# Altium schematic symbol library mw.SchLib: 78 symbols
Pins are listed as number, name and electrical type; pins without a type are passive.

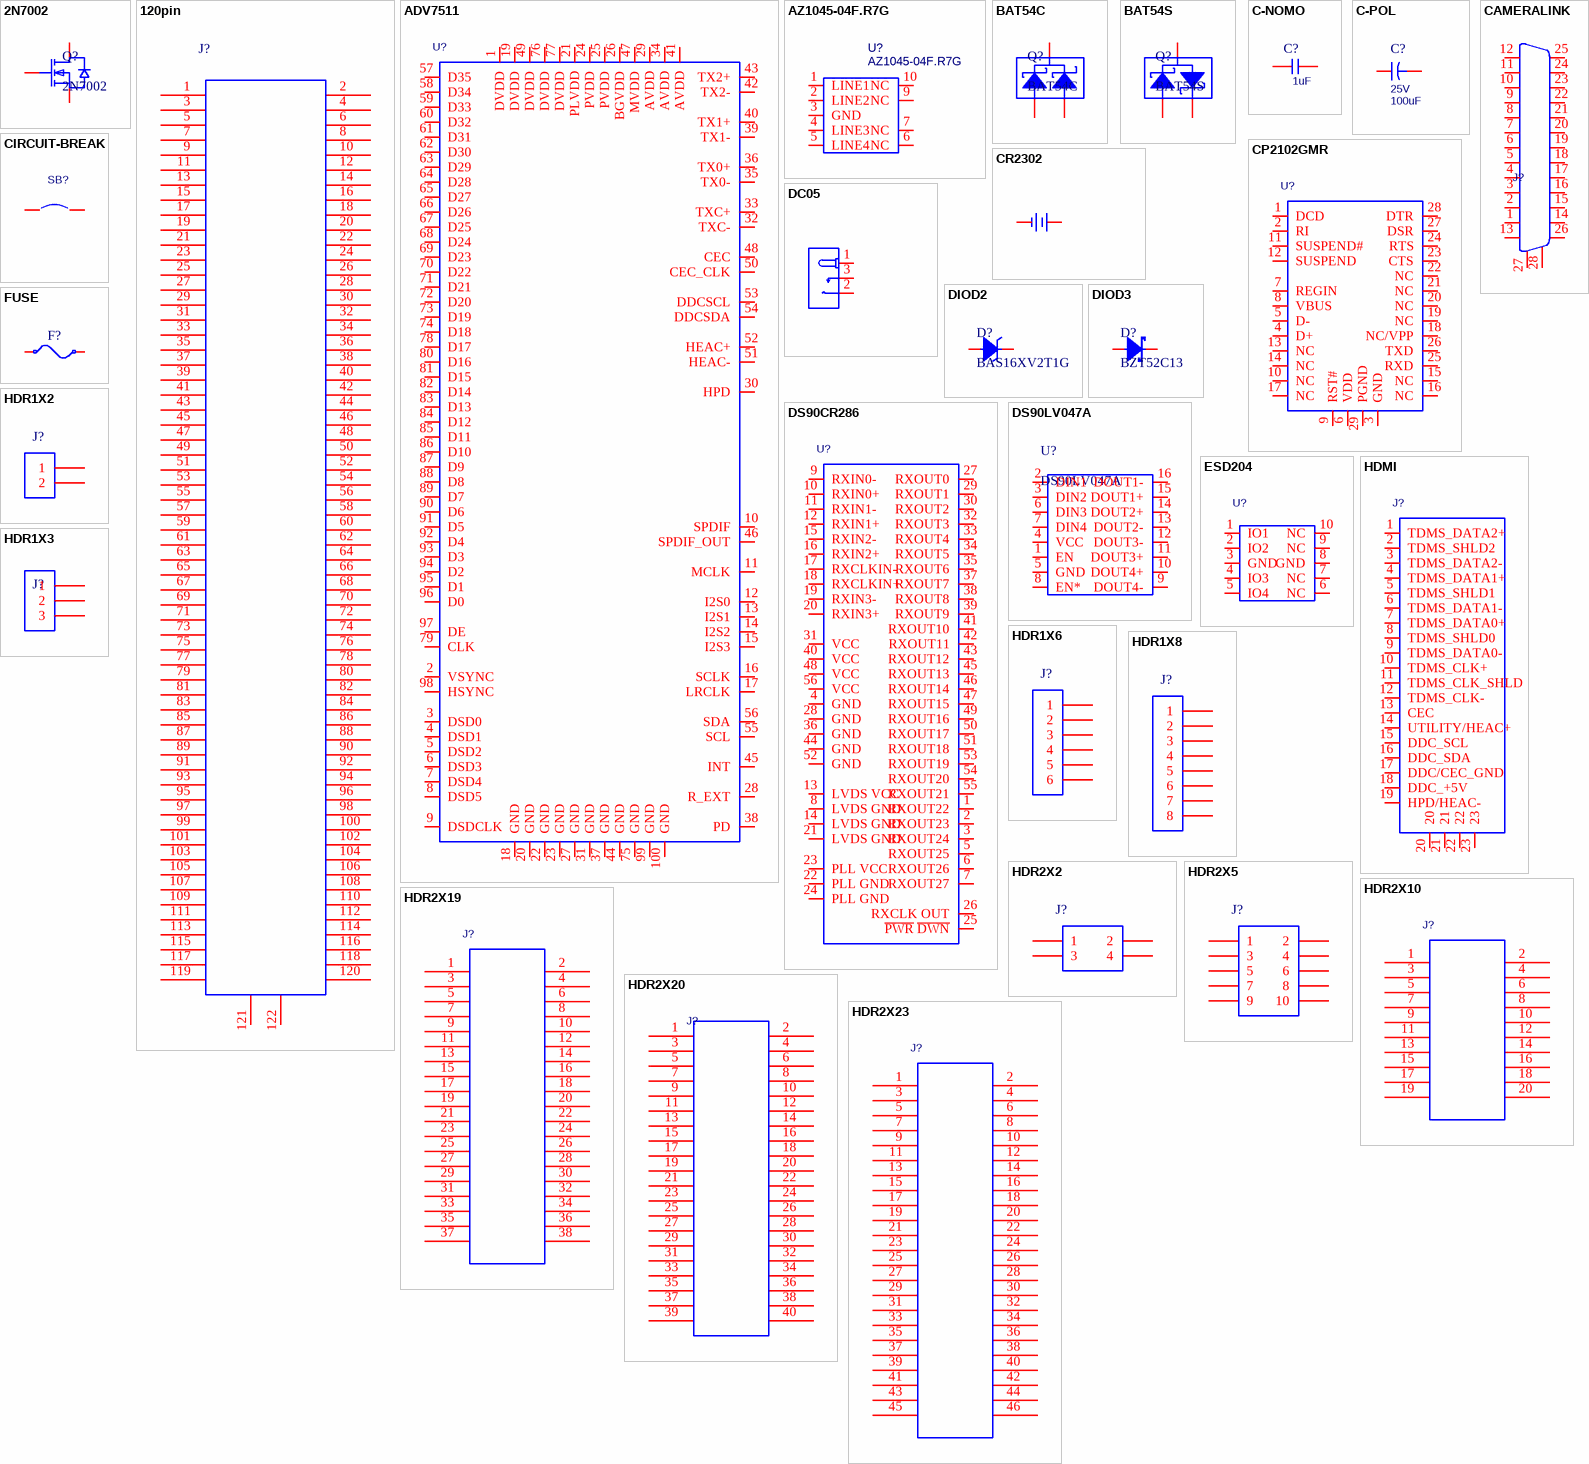
[diagram p0: symbols 2N7002 to HDR2X23]

## 2N7002
designator Q?
Supplier Part Number 1: C725128; Supplier 1: LCSC
footprint 2N7002 (SOT23, 3-Leads, Body 2.90x2.40mm, Pitch 0.95mm, IPC High Density)
pins: D, G, S

## 120pin
designator J?
footprint AXK620337YG (Footprint not found)
pins: 1, 2, 3, 4, 5, 6, 7, 8, 9, 10, 11, 12, 13, 14, 15, 16, 17, 18, 19, 20, 21, 22, 23, 24, 25, 26, 27, 28, 29, 30, 31, 32, 33, 34, 35, 36, 37, 38, 39, 40, 41, 42, 43, 44, 45, 46, 47, 48, 49, 50, 51, 52, 53, 54, 55, 56, 57, 58, 59, 60, 61, 62, 63, 64, 65, 66, 67, 68, 69, 70, 71, 72, 73, 74, 75, 76, 77, 78, 79, 80, 81, 82, 83, 84, 85, 86, 87, 88, 89, 90, 91, 92, 93, 94, 95, 96, 97, 98, 99, 100, 101, 102, 103, 104, 105, 106, 107, 108, 109, 110, 111, 112, 113, 114, 115, 116, 117, 118, 119, 120, 121, 122

## ADV7511
designator U?  (value not drawn)
Supplier 1: LCSC; Supplier Part Number 1: C179459
footprint ADV7511 (Footprint not found)
pins: 1 DVDD, 2 VSYNC, 3 DSD0, 4 DSD1, 5 DSD2, 6 DSD3, 7 DSD4, 8 DSD5, 9 DSDCLK, 10 SPDIF, 11 MCLK, 12 I2S0, 13 I2S1, 14 I2S2, 15 I2S3, 16 SCLK, 17 LRCLK, 18 GND, 19 DVDD, 20 GND, 21 PLVDD, 22 GND, 23 GND, 24 PVDD, 25 PVDD, 26 BGVDD, 27 GND, 28 R_EXT, 29 AVDD, 30 HPD, 31 GND, 32 TXC-, 33 TXC+, 34 AVDD, 35 TX0-, 36 TX0+, 37 GND, 38 PD, 39 TX1-, 40 TX1+, 41 AVDD, 42 TX2-, 43 TX2+, 44 GND, 45 INT, 46 SPDIF_OUT, 47 MVDD, 48 CEC, 49 DVDD, 50 CEC_CLK, 51 HEAC-, 52 HEAC+, 53 DDCSCL, 54 DDCSDA, 55 SCL, 56 SDA, 57 D35, 58 D34, 59 D33, 60 D32, 61 D31, 62 D30, 63 D29, 64 D28, 65 D27, 66 D26, 67 D25, 68 D24, 69 D23, 70 D22, 71 D21, 72 D20, 73 D19, 74 D18, 75 GND, 76 DVDD, 77 DVDD, 78 D17, 79 CLK, 80 D16, 81 D15, 82 D14, 83 D13, 84 D12, 85 D11, 86 D10, 87 D9, 88 D8, 89 D7, 90 D6, 91 D5, 92 D4, 93 D3, 94 D2, 95 D1, 96 D0, 97 DE, 98 HSYNC, 99 GND, 100 GND

## AZ1045-04F.R7G
designator U?
Supplier 1: LCSC; Supplier Part Number 1: C356811
footprint AZ1045 (Footprint not found)
pins: 1 LINE1, 2 LINE2, 3 GND, 4 LINE3, 5 LINE4, 6 NC, 7 NC, 9 NC, 10 NC

## BAT54C
designator Q?
Supplier Part Number 1: C82467; Supplier 1: LCSC
footprint SOT-23 (Footprint not found)
pins: 1, 2, 3

## BAT54S
designator Q?
Supplier 1: LCSC; Supplier Part Number 1: C19726
footprint SOT-23 (Footprint not found)
pins: 1, 2, 3

## C-NOMO
designator C?  value 1uF
voltage: 25V; precision: 5%
footprint C0603 (Footprint not found)
footprint C0402 (Footprint not found)
footprint C0805 (Footprint not found)
pins: 1, 2

## C-POL
designator C?  value 100uF  voltage: 25V
footprint C7343 (Footprint not found)
pins: 1, 2

## CAMERALINK
designator J?  (value not drawn)
footprint CAMERALINK (Footprint not found)
pins: 1, 2, 3, 4, 5, 6, 7, 8, 9, 10, 11, 12, 13, 14, 15, 16, 17, 18, 19, 20, 21, 22, 23, 24, 25, 26, 27, 28

## CIRCUIT-BREAK
designator SB?, comment Circuit Breaker  (value not drawn)
footprint CIRCUIT_BREAKER (Footprint not found)
pins: 1, 2

## CP2102GMR
designator U?  (value not drawn)
Supplier 1: LCSC; Supplier Part Number 1: C6568
footprint CP2102GMR (Footprint not found)
pins: 1 DCD, 2 RI, 3 GND, 4 D+, 5 D-, 6 VDD, 7 REGIN, 8 VBUS, 9 RST#, 10 NC, 11 SUSPEND#, 12 SUSPEND, 13 NC, 14 NC, 15 NC, 16 NC, 17 NC, 18 NC/VPP, 19 NC, 20 NC, 21 NC, 22 NC, 23 CTS, 24 RTS, 25 RXD, 26 TXD, 27 DSR, 28 DTR, 29 PGND

## CR2302
designator J?  (value not drawn)
frequency: 25MHZ
footprint CR2302 (Footprint not found)
pins: 1, 2

## DC05
designator J?
Supplier 1: LCSC; Supplier Part Number 1: C136744
footprint DC05 (Footprint not found)
pins: 1, 2, 3

## DIOD2
designator D?, comment BAS16XV2T1G
footprint SOD-523 (Footprint not found)
footprint DO-214AC (Footprint not found)
footprint SOD-123 (Footprint not found)
pins: 1, 2

## DIOD3
designator D?, comment BZT52C13
HelpURL: ./referencce/bzt52c13.pdf#page=(1)
footprint DO-214AC (Footprint not found)
footprint SOD-123 (Footprint not found)
pins: 1, 2

## DS90CR286
designator U?  (value not drawn)
Supplier 1: LCSC; Supplier Part Number 1: C311790
footprint DS90CR286 (Footprint not found)
pins: 1 RXOUT22, 2 RXOUT23, 3 RXOUT24, 4 GND, 5 RXOUT25, 6 RXOUT26, 7 RXOUT27, 8 LVDS GND, 9 RXIN0-, 10 RXIN0+, 11 RXIN1-, 12 RXIN1+, 13 LVDS VCC, 14 LVDS GND, 15 RXIN2-, 16 RXIN2+, 17 RXCLKIN-, 18 RXCLKIN+, 19 RXIN3-, 20 RXIN3+, 21 LVDS GND, 22 PLL GND, 23 PLL VCC, 24 PLL GND, 25 ~{PWR} ~{DWN}, 26 RXCLK OUT, 27 RXOUT0, 28 GND, 29 RXOUT1, 30 RXOUT2, 31 VCC, 32 RXOUT3, 33 RXOUT4, 34 RXOUT5, 35 RXOUT6, 36 GND, 37 RXOUT7, 38 RXOUT8, 39 RXOUT9, 40 VCC, 41 RXOUT10, 42 RXOUT11, 43 RXOUT12, 44 GND, 45 RXOUT13, 46 RXOUT14, 47 RXOUT15, 48 VCC, 49 RXOUT16, 50 RXOUT17, 51 RXOUT18, 52 GND, 53 RXOUT19, 54 RXOUT20, 55 RXOUT21, 56 VCC

## DS90LV047A
designator U?
Supplier Part Number 1: C87097; Supplier 1: LCSC
footprint DS90LV047 (Footprint not found)
pins: 1 EN, 2 DIN1, 3 DIN2, 4 VCC, 5 GND, 6 DIN3, 7 DIN4, 8 EN*, 9 DOUT4-, 10 DOUT4+, 11 DOUT3+, 12 DOUT3-, 13 DOUT2-, 14 DOUT2+, 15 DOUT1+, 16 DOUT1-

## ESD204
designator U?  (value not drawn)
Supplier 1: LCSC; Supplier Part Number 1: C553132
footprint ESD204
pins: 1 IO1, 2 IO2, 3 GND, 4 IO3, 5 IO4, 6 NC, 7 NC, 8 GND, 9 NC, 10 NC

## FUSE
designator F?
Supplier 1: LCSC; Supplier Part Number 1: C883162
footprint F1812 (Footprint not found)
pins: 1, 2

## HDMI
designator J?  (value not drawn)
Supplier 1: LCSC; Supplier Part Number 1: C138388
footprint HDMI_A_TYPE (Footprint not found)
pins: 1 TDMS_DATA2+, 2 TDMS_SHLD2, 3 TDMS_DATA2-, 4 TDMS_DATA1+, 5 TDMS_SHLD1, 6 TDMS_DATA1-, 7 TDMS_DATA0+, 8 TDMS_SHLD0, 9 TDMS_DATA0-, 10 TDMS_CLK+, 11 TDMS_CLK_SHLD, 12 TDMS_CLK-, 13 CEC, 14 UTILITY/HEAC+, 15 DDC_SCL, 16 DDC_SDA, 17 DDC/CEC_GND, 18 DDC_+5V, 19 HPD/HEAC-, 20, 21, 22, 23

## HDR1X2
designator J?
Supplier 1: LCSC; Supplier Part Number 1: C474881; Supplier 2: LCSC; Supplier Part Number 2: C225477; Supplier 3: LCSC; Supplier Part Number 3: C20079
footprint HDR1X2 (Footprint not found)
footprint KF301-5.0-2P (Footprint not found)
footprint XH-2A (Footprint not found)
pins: 1, 2

## HDR1X3
designator J?
Supplier 1: LCSC; Supplier Part Number 1: C474884; Supplier 2: LCSC; Supplier Part Number 2: C609572
footprint HDR1X3 (Footprint not found)
footprint KF301-5.0-3P (Footprint not found)
pins: 1, 2, 3

## HDR1X6
designator J?
Supplier 1: LCSC; Supplier Part Number 1: C474881; Supplier 2: LCSC; Supplier Part Number 2: C225477; Supplier 3: LCSC; Supplier Part Number 3: C20079
footprint KF301-5.0-6P
pins: 1, 2, 3, 4, 5, 6

## HDR1X8
designator J?
Supplier 1: LCSC; Supplier Part Number 1: C474881; Supplier 2: LCSC; Supplier Part Number 2: C225477; Supplier 3: LCSC; Supplier Part Number 3: C20079
footprint KF301-5.0-8P
pins: 1, 2, 3, 4, 5, 6, 7, 8

## HDR2X2
designator J?
Supplier 1: LCSC; Supplier Part Number 1: C225517
footprint HDR2X2 (Footprint not found)
pins: 1, 2, 3, 4

## HDR2X5
designator J?
Supplier 1: LCSC; Supplier Part Number 1: C225520; Supplier 2: LCSC; Supplier Part Number 2: C5665
footprint HDR2X5 (Footprint not found)
footprint HDR2X5-NJ (Footprint not found)
pins: 1, 2, 3, 4, 5, 6, 7, 8, 9, 10

## HDR2X10
designator J?
Supplier 1: LCSC; Supplier Part Number 1: C124359; Supplier 2: LCSC; Supplier Part Number 2: C3405
footprint HDR2X10-NJ (Footprint not found)
footprint HDR2X10 (Connector; Header;)
pins: 1, 2, 3, 4, 5, 6, 7, 8, 9, 10, 11, 12, 13, 14, 15, 16, 17, 18, 19, 20

## HDR2X19
designator J?
Supplier 1: LCSC; Supplier Part Number 1: C124383
footprint HDR2X19-1.27-SMD (Footprint not found)
pins: 1, 2, 3, 4, 5, 6, 7, 8, 9, 10, 11, 12, 13, 14, 15, 16, 17, 18, 19, 20, 21, 22, 23, 24, 25, 26, 27, 28, 29, 30, 31, 32, 33, 34, 35, 36, 37, 38

## HDR2X20
designator J?
Supplier 1: LCSC; Supplier Part Number 1: C124383
footprint HDR2X20 (Footprint not found)
pins: 1, 2, 3, 4, 5, 6, 7, 8, 9, 10, 11, 12, 13, 14, 15, 16, 17, 18, 19, 20, 21, 22, 23, 24, 25, 26, 27, 28, 29, 30, 31, 32, 33, 34, 35, 36, 37, 38, 39, 40

## HDR2X23
designator J?
footprint HDR2X23-1.27-SMD (Footprint not found)
pins: 1, 2, 3, 4, 5, 6, 7, 8, 9, 10, 11, 12, 13, 14, 15, 16, 17, 18, 19, 20, 21, 22, 23, 24, 25, 26, 27, 28, 29, 30, 31, 32, 33, 34, 35, 36, 37, 38, 39, 40, 41, 42, 43, 44, 45, 46

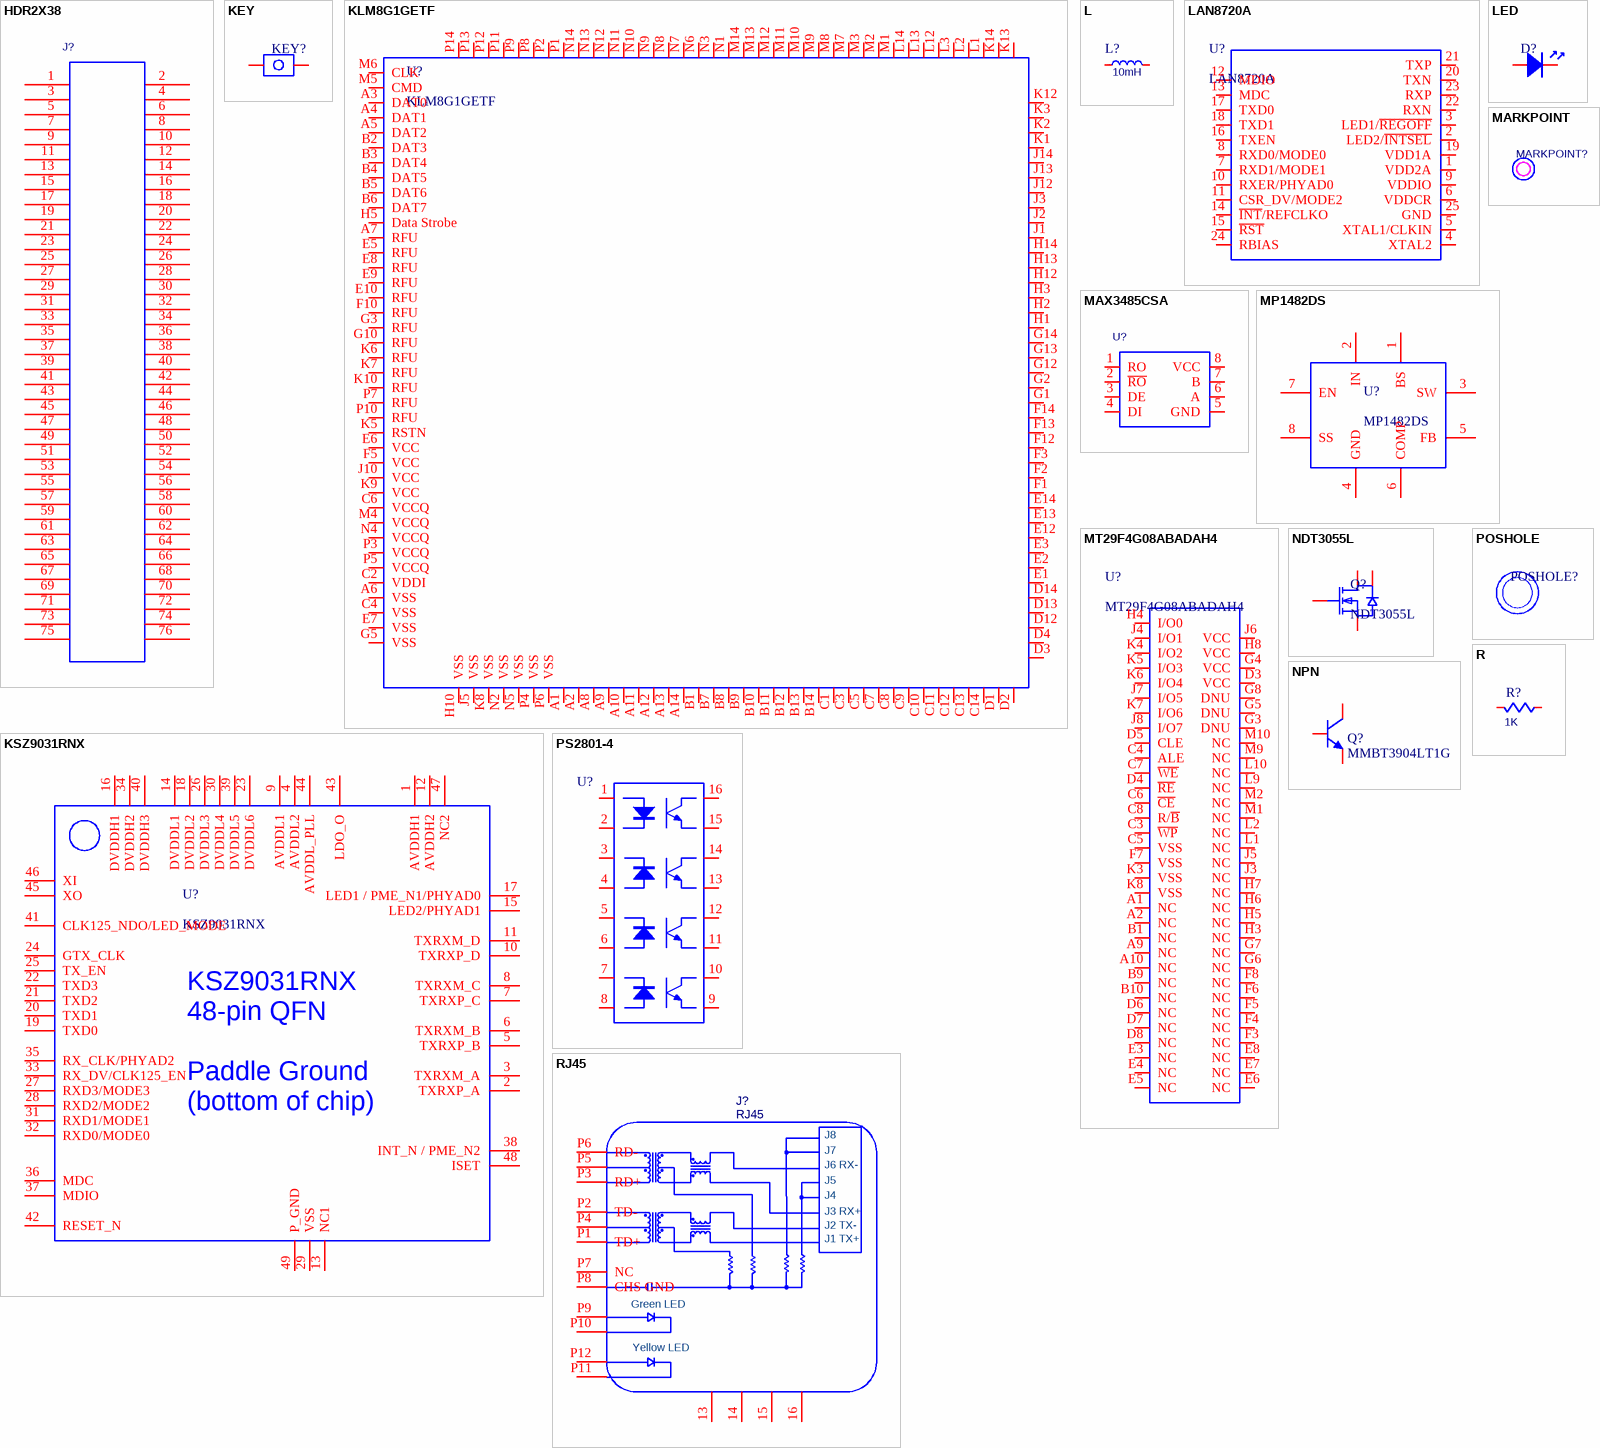
[diagram p1: symbols HDR2X38 to RJ45]

## HDR2X38
designator J?
footprint HDR2X38-1.27-SMD (Footprint not found)
pins: 1, 2, 3, 4, 5, 6, 7, 8, 9, 10, 11, 12, 13, 14, 15, 16, 17, 18, 19, 20, 21, 22, 23, 24, 25, 26, 27, 28, 29, 30, 31, 32, 33, 34, 35, 36, 37, 38, 39, 40, 41, 42, 43, 44, 45, 46, 47, 48, 49, 50, 51, 52, 53, 54, 55, 56, 57, 58, 59, 60, 61, 62, 63, 64, 65, 66, 67, 68, 69, 70, 71, 72, 73, 74, 75, 76

## KEY
designator KEY?
Supplier 1: LCSC; Supplier Part Number 1: C136741
footprint KEY735SO (Footprint not found)
pins: 1, 2

## KLM8G1GETF
designator U?
Supplier 1: LCSC; Supplier Part Number 1: C499918
footprint KLM8G1GETF (Footprint not found)
pins: A1, A2, A3 DAT0, A4 DAT1, A5 DAT2, A6 VSS, A7 RFU, A8, A9, A10, A11, A12, A13, A14, B1, B2 DAT3, B3 DAT4, B4 DAT5, B5 DAT6, B6 DAT7, B7, B8, B9, B10, B11, B12, B13, B14, C1, C2 VDDI, C3, C4 VSS, C5, C6 VCCQ, C7, C8, C9, C10, C11, C12, C13, C14, D1, D2, D3, D4, D12, D13, D14, E1, E2, E3, E5 RFU, E6 VCC, E7 VSS, E8 RFU, E9 RFU, E10 RFU, E12, E13, E14, F1, F2, F3, F5 VCC, F10 RFU, F12, F13, F14, G1, G2, G3 RFU, G5 VSS, G10 RFU, G12, G13, G14, H1, H2, H3, H5 Data Strobe, H10 VSS, H12, H13, H14, J1, J2, J3, J5 VSS, J10 VCC, J12, J13, J14, K1, K2, K3, K5 RSTN, K6 RFU, K7 RFU, K8 VSS, K9 VCC, K10 RFU, K12, K13, K14, L1, L2, L3, L12, L13, L14, M1, M2, M3, M4 VCCQ, M5 CMD, M6 CLK, M7, M8, M9, M10, M11, M12, M13, M14, N1, N2 VSS, N3, N4 VCCQ, N5 VSS, N6, N7, N8, N9, N10, N11, N12, N13, N14, P1, P2, P3 VCCQ, P4 VSS, P5 VCCQ, P6 VSS, P7 RFU, P8, P9, P10 RFU, P11, P12, P13, P14

## KSZ9031RNX
designator U?
Supplier 1: LCSC; Supplier Part Number 1: C58758
footprint KSZ9031 (Footprint not found)
pins: 1 AVDDH1, 2 TXRXP_A, 3 TXRXM_A, 4 AVDDL2, 5 TXRXP_B, 6 TXRXM_B, 7 TXRXP_C, 8 TXRXM_C, 9 AVDDL1, 10 TXRXP_D, 11 TXRXM_D, 12 AVDDH2, 13 NC1, 14 DVDDL1, 15 LED2/PHYAD1, 16 DVDDH1, 17 LED1 / PME_N1/PHYAD0, 18 DVDDL2, 19 TXD0, 20 TXD1, 21 TXD2, 22 TXD3, 23 DVDDL6, 24 GTX_CLK, 25 TX_EN, 26 DVDDL3, 27 RXD3/MODE3, 28 RXD2/MODE2, 29 VSS, 30 DVDDL4, 31 RXD1/MODE1, 32 RXD0/MODE0, 33 RX_DV/CLK125_EN, 34 DVDDH2, 35 RX_CLK/PHYAD2, 36 MDC, 37 MDIO, 38 INT_N / PME_N2, 39 DVDDL5, 40 DVDDH3, 41 CLK125_NDO/LED_MODE, 42 RESET_N, 43 LDO_O, 44 AVDDL_PLL, 45 XO, 46 XI, 47 NC2, 48 ISET, 49 P_GND
text: KSZ9031RNX / 48-pin QFN / Paddle Ground / (bottom of chip)

## L
designator L?  value 10mH
Code_IEC: 1005; Published: 8-Jun-2000; LatestRevisionDate: 29-May-2009; LatestRevisionNote: IPC-7351 Footprint Added.; PackageReference: 0402-A; Publisher: Altium Limited; PackageDescription: Chip Inductor; Code_JEITA: 0402
footprint L0603 (Footprint not found)
footprint L0805 (Footprint not found)
footprint FXL0624 (Footprint not found)
pins: 1, 2

## LAN8720A
designator U?
Supplier 1: LCSC; Supplier Part Number 1: C45223
footprint LAN8720 (Footprint not found)
pins: 1 VDD2A, 2 LED2/~{INTSEL}, 3 LED1/~{REGOFF}, 4 XTAL2, 5 XTAL1/CLKIN, 6 VDDCR, 7 RXD1/MODE1, 8 RXD0/MODE0, 9 VDDIO, 10 RXER/PHYAD0, 11 CSR_DV/MODE2, 12 MDIO, 13 MDC, 14 ~{INT}/REFCLKO, 15 ~{RST}, 16 TXEN, 17 TXD0, 18 TXD1, 19 VDD1A, 20 TXN, 21 TXP, 22 RXN, 23 RXP, 24 RBIAS, 25 GND

## LED
designator D?
footprint LED0603 (Footprint not found)
pins: 1, 2

## MARKPOINT
designator MARKPOINT?
footprint MARKPOINT-1.0 (Footprint not found)

## MAX3485CSA
designator U?  (value not drawn)
Supplier 1: LCSC; Supplier Part Number 1: C1121852
footprint MAX3485CSA (Footprint not found)
pins: 1 RO, 2 ~{RO}, 3 DE, 4 DI, 5 GND, 6 A, 7 B, 8 VCC

## MP1482DS
designator U?
Supplier 1: LCSC; Supplier Part Number 1: C444384
footprint MP1482 (Footprint not found)
pins: 1 BS, 2 IN, 3 SW, 4 GND, 5 FB, 6 COMP, 7 EN, 8 SS

## MT29F4G08ABADAH4
designator U?
Supplier 1: LCSC; Supplier Part Number 1: C428478
footprint MT29F4G08ABADAH4 (Footprint not found)
pins: A1 NC, A2 NC, A9 NC, A10 NC, B1 NC, B9 NC, B10 NC, C3 ~{WP}, C4 ALE, C5 VSS, C6 ~{CE}, C7 ~{WE}, C8 R/~{B}, D3 VCC, D4 ~{RE}, D5 CLE, D6 NC, D7 NC, D8 NC, E3 NC, E4 NC, E5 NC, E6 NC, E7 NC, E8 NC, F3 NC, F4 NC, F5 NC, F6 NC, F7 VSS, F8 NC, G3 DNU, G4 VCC, G5 DNU, G6 NC, G7 NC, G8 DNU, H3 NC, H4 I/O0, H5 NC, H6 NC, H7 NC, H8 VCC, J3 NC, J4 I/O1, J5 NC, J6 VCC, J7 I/O5, J8 I/O7, K3 VSS, K4 I/O2, K5 I/O3, K6 I/O4, K7 I/O6, K8 VSS, L1 NC, L2 NC, L9 NC, L10 NC, M1 NC, M2 NC, M9 NC, M10 NC

## NDT3055L
designator Q?
Supplier 1: LCSC; Supplier Part Number 1: C725128
footprint SOT-223 (Footprint not found)
pins: 1 G, 2 D, 3 S, 4 D

## NPN
designator Q?, comment MMBT3904LT1G
Supplier 1: LCSC; Supplier Part Number 1: C260863
footprint SOT-23 (Footprint not found)
pins: 1 B, 2 E, 3 C

## POSHOLE
designator POSHOLE?
footprint POSHOLE-3.2 (Footprint not found)

## PS2801-4
designator U?  (value not drawn)
Supplier 1: LCSC; Supplier Part Number 1: C89880
footprint PS2801-4 (SOP, 16-Leads, Body 10.28x4.40mm, Pitch 1.27mm, IPC High Density)
pins: 1, 2, 3, 4, 5, 6, 7, 8, 9, 10, 11, 12, 13, 14, 15, 16

## R
designator R?  value 1K
precision: 1%
footprint R0603 (Footprint not found)
footprint R0402 (Footprint not found)
footprint R1812 (Footprint not found)
footprint R2512 (Chip Resistor, 2-Leads, Body 6.35x3.20mm, IPC High Density)
pins: 1, 2

## RJ45
designator J?
Supplier 1: LCSC; Supplier Part Number 1: C69427
footprint RJ45 (Footprint not found)
pins: 13, 14, 15, 16, P1 TD+, P2 TD-, P3 RD+, P4 4, P5 5, P6 RD-, P7 NC, P8 CHS GND, P9 9, P10 10, P11 11, P12 12
text: J8; J7; J6 RX-; J5; J4; J3 RX+; J2 TX-; J1 TX+; Green LED; Yellow LED

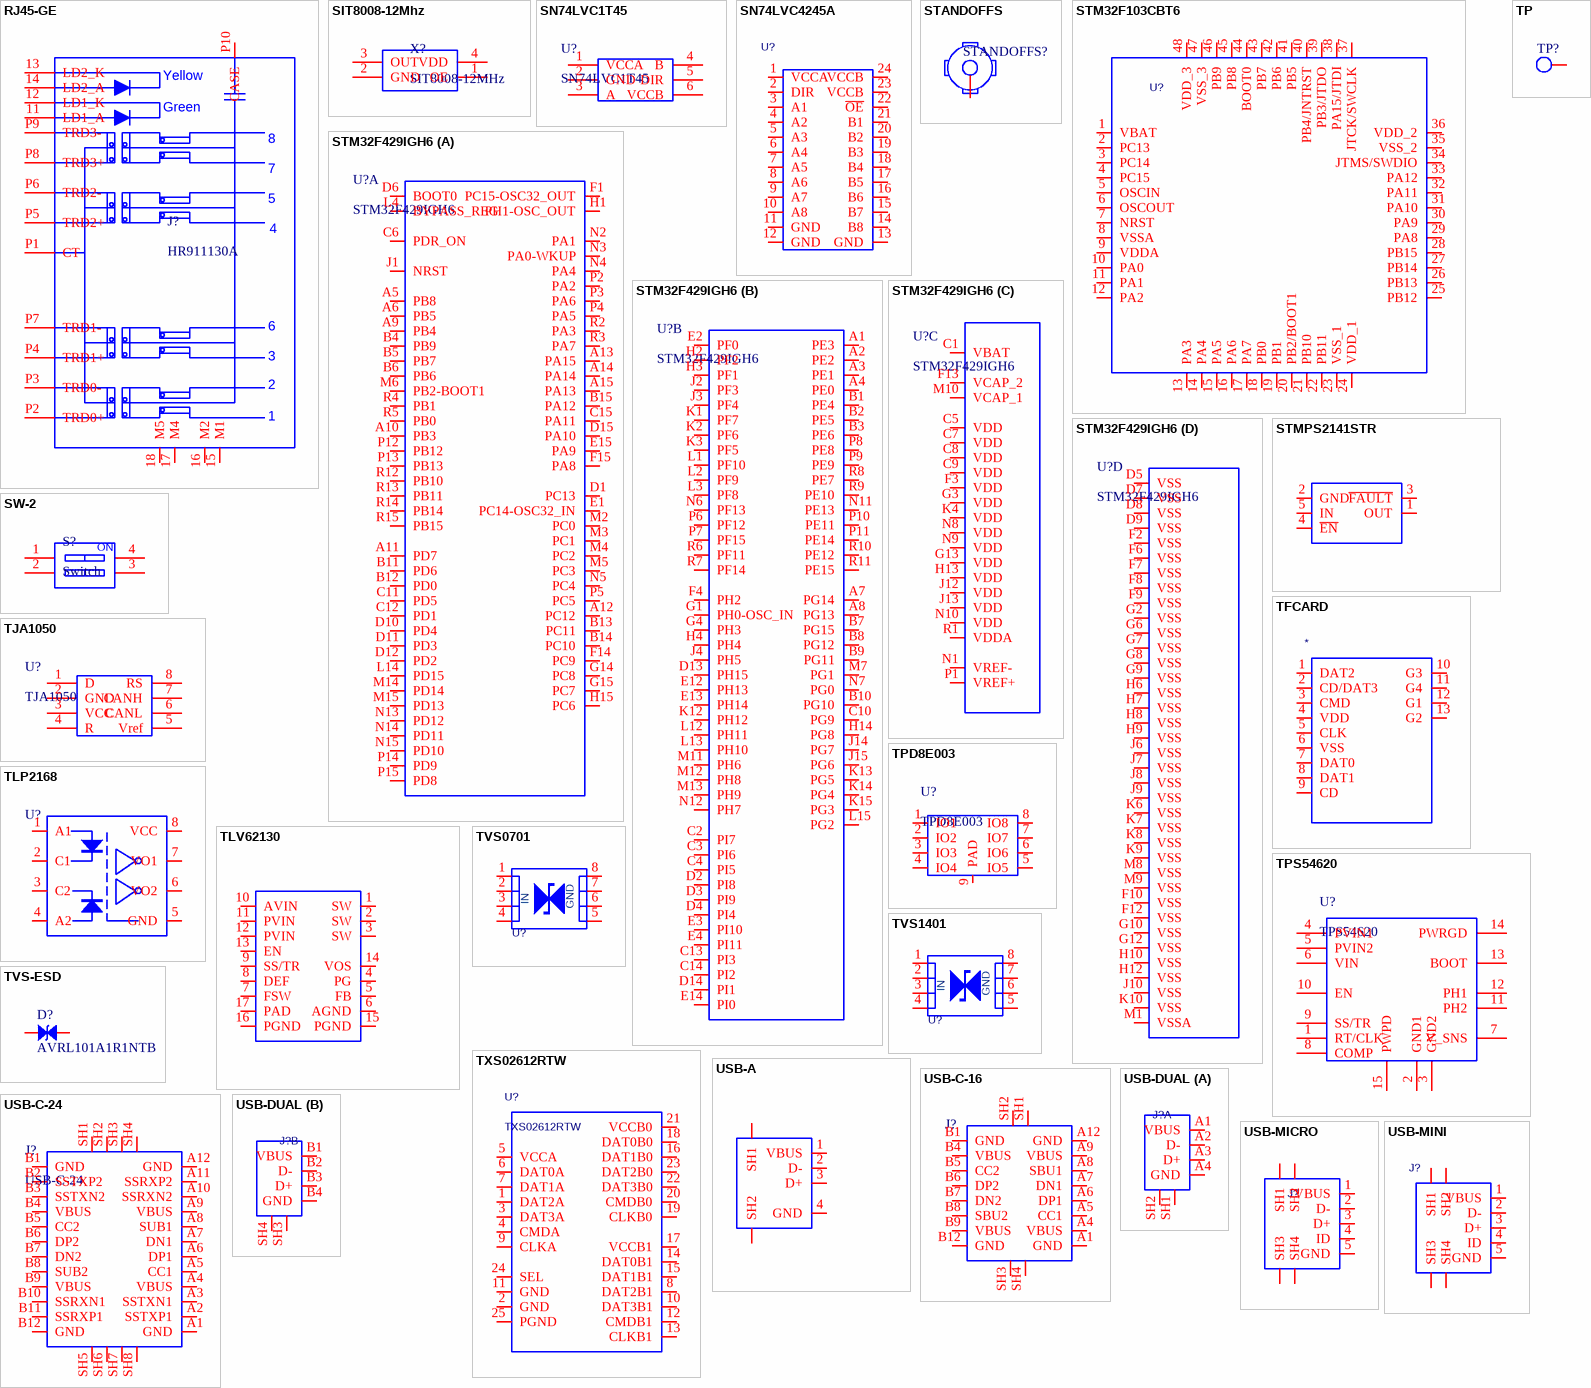
[diagram p2: symbols RJ45-GE to USB-MINI]

## RJ45-GE
designator J?, comment HR911130A
Supplier 1: LCSC; Supplier Part Number 1: C54408
footprint RJ45-GE (Footprint not found)
pins: 11 LD1_A, 12 LD1_K, 13 LD2_K, 14 LD2_A, 15 M1, 16 M2, 17 M4, 18 M5, P1 CT, P2 TRD0+, P3 TRD0-, P4 TRD1+, P5 TRD2+, P6 TRD2-, P7 TRD1-, P8 TRD3+, P9 TRD3-, P10 CASE
text: Yellow; Green; 8; 7; 5; 4; 6; 3; 2; 1

## SIT8008-12Mhz
designator X?, comment SIT8008-12MHz
Supplier 1: LCSC; Supplier Part Number 1: C382483
footprint OSC3225 (Footprint not found)
pins: 1 OE, 2 GND, 3 OUT, 4 VDD

## SN74LVC1T45
designator U?
Supplier 1: LCSC; Supplier Part Number 1: C9382
footprint SN74LVC1T45 (Footprint not found)
pins: 1 VCCA, 2 GND, 3 A, 4 B, 5 DIR, 6 VCCB

## SN74LVC4245A
designator U?  (value not drawn)
Supplier 1: LCSC; Supplier Part Number 1: C7859
footprint SN74LVC4245A (TSOP, 24-Leads, Body 7.80x4.47mm, Pitch 0.65mm, IPC High Density)
pins: 1 VCCA, 2 DIR, 3 A1, 4 A2, 5 A3, 6 A4, 7 A5, 8 A6, 9 A7, 10 A8, 11 GND, 12 GND, 13 GND, 14 B8, 15 B7, 16 B6, 17 B5, 18 B4, 19 B3, 20 B2, 21 B1, 22 ~{OE}, 23 VCCB, 24 VCCB

## STANDOFFS
designator STANDOFFS?
footprint STANDOFFS-5-2.5 (Footprint not found)
pins: 0

## STM32F103CBT6
designator U?  (value not drawn)
Supplier 1: LCSC; Supplier Part Number 1: C8304
footprint STM32F103CBT6 (Footprint not found)
pins: 1 VBAT, 2 PC13, 3 PC14, 4 PC15, 5 OSCIN, 6 OSCOUT, 7 NRST, 8 VSSA, 9 VDDA, 10 PA0, 11 PA1, 12 PA2, 13 PA3, 14 PA4, 15 PA5, 16 PA6, 17 PA7, 18 PB0, 19 PB1, 20 PB2/BOOT1, 21 PB10, 22 PB11, 23 VSS_1, 24 VDD_1, 25 PB12, 26 PB13, 27 PB14, 28 PB15, 29 PA8, 30 PA9, 31 PA10, 32 PA11, 33 PA12, 34 JTMS/SWDIO, 35 VSS_2, 36 VDD_2, 37 JTCK/SWCLK, 38 PA15/JTDI, 39 PB3/JTDO, 40 PB4/JNTRST, 41 PB5, 42 PB6, 43 PB7, 44 BOOT0, 45 PB8, 46 PB9, 47 VSS_3, 48 VDD_3

## STM32F429IGH6
designator U?
No Description Available; Supplier 1: LCSC; Supplier Part Number 1: C1337486
footprint STM32F429IGH6 (Footprint not found)
part A pins: A5 PB8, A6 PB5, A9 PB4, A10 PB3, A11 PD7, A12 PC12, A13 PA15, A14 PA14, A15 PA13, B4 PB9, B5 PB7, B6 PB6, B11 PD6, B12 PD0, B13 PC11, B14 PC10, B15 PA12, C6 PDR_ON, C11 PD5, C12 PD1, C15 PA11, D1 PC13, D6 BOOT0, D10 PD4, D11 PD3, D12 PD2, D15 PA10, E1 PC14-OSC32_IN, E15 PA9, F1 PC15-OSC32_OUT, F14 PC9, F15 PA8, G14 PC8, G15 PC7, H1 PH1-OSC_OUT, H15 PC6, J1 NRST, L4 BYPASS_REG, L14 PD15, M2 PC0, M3 PC1, M4 PC2, M5 PC3, M6 PB2-BOOT1, M14 PD14, M15 PD13, N2 PA1, N3 PA0-WKUP, N4 PA4, N5 PC4, N13 PD12, N14 PD11, N15 PD10, P2 PA2, P3 PA6, P4 PA5, P5 PC5, P12 PB12, P13 PB13, P14 PD9, P15 PD8, R2 PA3, R3 PA7, R4 PB1, R5 PB0, R12 PB10, R13 PB11, R14 PB14, R15 PB15
part B pins: A1 PE3, A2 PE2, A3 PE1, A4 PE0, A7 PG14, A8 PG13, B1 PE4, B2 PE5, B3 PE6, B7 PG15, B8 PG12, B9 PG11, B10 PG10, C2 PI7, C3 PI6, C4 PI5, C10 PG9, C13 PI3, C14 PI2, D2 PI8, D3 PI9, D4 PI4, D13 PH15, D14 PI1, E2 PF0, E3 PI10, E4 PI11, E12 PH13, E13 PH14, E14 PI0, F4 PH2, G1 PH0-OSC_IN, G4 PH3, H2 PF2, H3 PF1, H4 PH4, H14 PG8, J2 PF3, J3 PF4, J4 PH5, J14 PG7, J15 PG6, K1 PF7, K2 PF6, K3 PF5, K12 PH12, K13 PG5, K14 PG4, K15 PG3, L1 PF10, L2 PF9, L3 PF8, L12 PH11, L13 PH10, L15 PG2, M7 PG1, M11 PH6, M12 PH8, M13 PH9, N6 PF13, N7 PG0, N11 PE13, N12 PH7, P6 PF12, P7 PF15, P8 PE8, P9 PE9, P10 PE11, P11 PE14, R6 PF11, R7 PF14, R8 PE7, R9 PE10, R10 PE12, R11 PE15
part C pins: C1 VBAT (power), C5 VDD (power), C7 VDD (power), C8 VDD (power), C9 VDD (power), F3 VDD (power), F13 VCAP_2 (power), G3 VDD (power), G13 VDD (power), H13 VDD (power), J12 VDD (power), J13 VDD (power), K4 VDD (power), M10 VCAP_1 (power), N1 VREF- (power), N8 VDD (power), N9 VDD (power), N10 VDD (power), P1 VREF+ (power), R1 VDDA (power)
part D pins: D5 VSS (power), D7 VSS (power), D8 VSS (power), D9 VSS (power), F2 VSS (power), F6 VSS (power), F7 VSS (power), F8 VSS (power), F9 VSS (power), F10 VSS (power), F12 VSS (power), G2 VSS (power), G6 VSS (power), G7 VSS (power), G8 VSS (power), G9 VSS (power), G10 VSS (power), G12 VSS (power), H6 VSS (power), H7 VSS (power), H8 VSS (power), H9 VSS (power), H10 VSS (power), H12 VSS (power), J6 VSS (power), J7 VSS (power), J8 VSS (power), J9 VSS (power), J10 VSS (power), K6 VSS (power), K7 VSS (power), K8 VSS (power), K9 VSS (power), K10 VSS (power), M1 VSSA (power), M8 VSS (power), M9 VSS (power)

## STMPS2141STR
designator U?  (value not drawn)
Supplier 1: LCSC; Supplier Part Number 1: C54624
footprint STMPS2141STR (Footprint not found)
pins: 1 OUT, 2 GND, 3 ~{FAULT}, 4 ~{EN}, 5 IN

## SW-2
designator S?, comment Switch
Supplier 1: LCSC; Supplier Part Number 1: C224995
footprint DHN02VTR (Footprint not found)
pins: 1 A1, 2 A2, 3 B2, 4 B1
text: ON

## TFCARD
designator *  (value not drawn)
footprint TFCARD (Footprint not found)
footprint TF-SMALL (Footprint not found)
pins: 1 DAT2, 2 CD/DAT3, 3 CMD, 4 VDD, 5 CLK, 6 VSS, 7 DAT0, 8 DAT1, 9 CD, 10 G3, 11 G4, 12 G1, 13 G2

## TJA1050
designator U?
Supplier 1: LCSC; Supplier Part Number 1: C6952
footprint TJA1050 (Footprint not found)
pins: 1 D, 2 GND, 3 VCC, 4 R, 5 Vref, 6 CANL, 7 CANH, 8 RS

## TLP2168
designator U?  (value not drawn)
Supplier 1: LCSC; Supplier Part Number 1: C99480
footprint TLP2168
pins: 1 A1, 2 C1, 3 C2, 4 A2, 5 GND, 6 VO2, 7 VO1, 8 VCC

## TLV62130
designator U?  (value not drawn)
Supplier 1: LCSC; Supplier Part Number 1: C122479
footprint TLV62130 (Footprint not found)
pins: 1 SW, 2 SW, 3 SW, 4 PG, 5 FB, 6 AGND, 7 FSW, 8 DEF, 9 SS/TR, 10 AVIN, 11 PVIN, 12 PVIN, 13 EN, 14 VOS, 15 PGND, 16 PGND, 17 PAD

## TP
designator TP?
footprint TP (Footprint not found)
pins: 0

## TPD8E003
designator U?
Supplier 1: LCSC; Supplier Part Number 1: C2867469
footprint TPD8E003 (SON, 8-Leads, Body 1.70x1.35mm, Pitch 0.40mm, Thermal Pad 1.20x0.40mm, IPC High Density)
pins: 1 IO1, 2 IO2, 3 IO3, 4 IO4, 5 IO5, 6 IO6, 7 IO7, 8 IO8, 9 PAD

## TPS54620
designator U?
Supplier 1: LCSC; Supplier Part Number 1: C29438
footprint TPS54620 (Footprint not found)
pins: 1 RT/CLK, 2 GND1, 3 GND2, 4 PVIN1, 5 PVIN2, 6 VIN, 7 V_SNS, 8 COMP, 9 SS/TR, 10 EN, 11 PH2, 12 PH1, 13 BOOT, 14 PWRGD, 15 PWPD

## TVS0701
designator U?  (value not drawn)
Supplier 1: LCSC; Supplier Part Number 1: C2873147
footprint TVS0701 (Footprint not found)
pins: 1 IN, 2 IN, 3 IN, 4 IN, 5 GND, 6 GND, 7 GND, 8 GND

## TVS1401
designator U?  (value not drawn)
Supplier 1: LCSC; Supplier Part Number 1: C1849891
footprint TVS1401 (SON, 8-Leads, Body 3.00x3.00mm, Pitch 0.65mm, Thermal Pad 1.20x0.40mm, IPC High Density)
pins: 1 IN, 2 IN, 3 IN, 4 IN, 5 GND, 6 GND, 7 GND, 8 GND

## TVS-ESD
designator D?, comment AVRL101A1R1NTB
Supplier 1: LCSC; Supplier Part Number 1: C92016
footprint TVS0402 (Footprint not found)
pins: 1, 2

## TXS02612RTW
designator U?
Supplier 1: LCSC; Supplier Part Number 1: C140276
footprint TXS02612TWR (Footprint not found)
pins: 1 DAT2A, 2 GND, 3 DAT3A, 4 CMDA, 5 VCCA, 6 DAT0A, 7 DAT1A, 8 DAT2B1, 9 CLKA, 10 DAT3B1, 11 GND, 12 CMDB1, 13 CLKB1, 14 DAT0B1, 15 DAT1B1, 16 DAT1B0, 17 VCCB1, 18 DAT0B0, 19 CLKB0, 20 CMDB0, 21 VCCB0, 22 DAT3B0, 23 DAT2B0, 24 SEL, 25 PGND

## USB-A
designator J?, comment USBA  (value not drawn)
Supplier 1: LCSC; Supplier Part Number 1: C283550
footprint USB-A (Footprint not found)
pins: 1 VBUS, 2 D-, 3 D+, 4 GND, SH1, SH2

## USB-C-16
designator J?  (value not drawn)
Supplier 1: LCSC; Supplier Part Number 1: C165948
footprint USB-C-16 (Footprint not found)
pins: A1 GND, A4 VBUS, A5 CC1, A6 DP1, A7 DN1, A8 SBU1, A9 VBUS, A12 GND, B1 GND, B4 VBUS, B5 CC2, B6 DP2, B7 DN2, B8 SBU2, B9 VBUS, B12 GND, SH1, SH2, SH3, SH4

## USB-C-24
designator J?
Supplier 1: LCSC; Supplier Part Number 1: C129018
footprint USB-C-24 (Footprint not found)
pins: A1 GND, A2 SSTXP1, A3 SSTXN1, A4 VBUS, A5 CC1, A6 DP1, A7 DN1, A8 SUB1, A9 VBUS, A10 SSRXN2, A11 SSRXP2, A12 GND, B1 GND, B2 SSTXP2, B3 SSTXN2, B4 VBUS, B5 CC2, B6 DP2, B7 DN2, B8 SUB2, B9 VBUS, B10 SSRXN1, B11 SSRXP1, B12 GND, SH1, SH2, SH3, SH4, SH5, SH6, SH7, SH8

## USB-DUAL
designator J?  (value not drawn)
Supplier 1: LCSC; Supplier Part Number 1: C12049
footprint USB-DUAL
part A pins: A1 VBUS, A2 D-, A3 D+, A4 GND, SH1, SH2
part B pins: B1 VBUS, B2 D-, B3 D+, B4 GND, SH3, SH4

## USB-MICRO
designator J?  (value not drawn)
Supplier 1: LCSC; Supplier Part Number 1: C2689960
footprint USB-MICRO (Footprint not found)
pins: 1 VBUS, 2 D-, 3 D+, 4 ID, 5 GND, SH1, SH2, SH3, SH4

## USB-MINI
designator J?  (value not drawn)
Supplier 1: LCSC; Supplier Part Number 1: C91144
footprint USB-MINI (Footprint not found)
pins: 1 VBUS, 2 D-, 3 D+, 4 ID, 5 GND, SH1, SH2, SH3, SH4

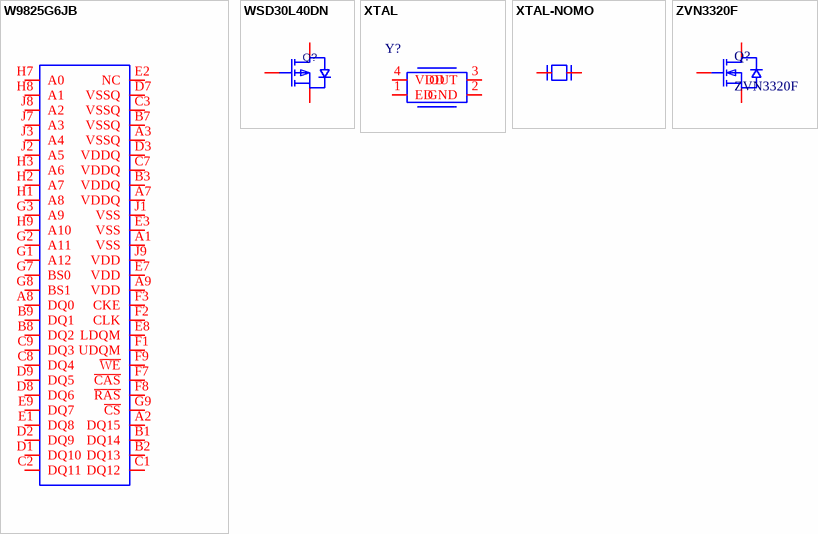
[diagram p3: symbols W9825G6JB to ZVN3320F]

## W9825G6JB
designator U?
Supplier 1: LCSC; Supplier Part Number 1: C2641239
footprint W9825G6JB (Footprint not found)
pins: A1 VSS, A2 DQ15, A3 VSSQ, A7 VDDQ, A8 DQ0, A9 VDD, B1 DQ14, B2 DQ13, B3 VDDQ, B7 VSSQ, B8 DQ2, B9 DQ1, C1 DQ12, C2 DQ11, C3 VSSQ, C7 VDDQ, C8 DQ4, C9 DQ3, D1 DQ10, D2 DQ9, D3 VDDQ, D7 VSSQ, D8 DQ6, D9 DQ5, E1 DQ8, E2 NC, E3 VSS, E7 VDD, E8 LDQM, E9 DQ7, F1 UDQM, F2 CLK, F3 CKE, F7 ~{CAS}, F8 ~{RAS}, F9 ~{WE}, G1 A12, G2 A11, G3 A9, G7 BS0, G8 BS1, G9 ~{CS}, H1 A8, H2 A7, H3 A6, H7 A0, H8 A1, H9 A10, J1 VSS, J2 A5, J3 A4, J7 A3, J8 A2, J9 VDD

## WSD30L40DN
designator Q?  (value not drawn)
Supplier 1: LCSC; Supplier Part Number 1: C148390
footprint WSD30L40DN
pins: D, G, S

## XTAL
designator Y?
frequency: 25MHZ; Supplier 1: LCSC; Supplier Part Number 1: C669088
footprint OSC3225 (Footprint not found)
pins: 1 ED, 2 GND, 3 OUT, 4 VDD

## XTAL-NOMO
designator Y?, comment XTAL  (value not drawn)
frequency: 32.768; Supplier 1: LCSC; Supplier Part Number 1: C383847
footprint OSC3215 (Footprint not found)
pins: 1, 2

## ZVN3320F
designator Q?
Supplier 1: LCSC; Supplier Part Number 1: C260863
footprint SOT-23
pins: 1 G, 2 S, 3 D